# Altium footprint library Integrated Circuit SMD.PcbLib: 10 footprints
Each footprint in its own frame and in the unit in brackets; x right, y up, seen from the top. Pads: shape width x height; smd on the part's side, far side on the other; paste and mask are expansions set on the pad; w line width, h text height; cw(c..) or ccw(c..) is an arc to the next point about the centre after c.
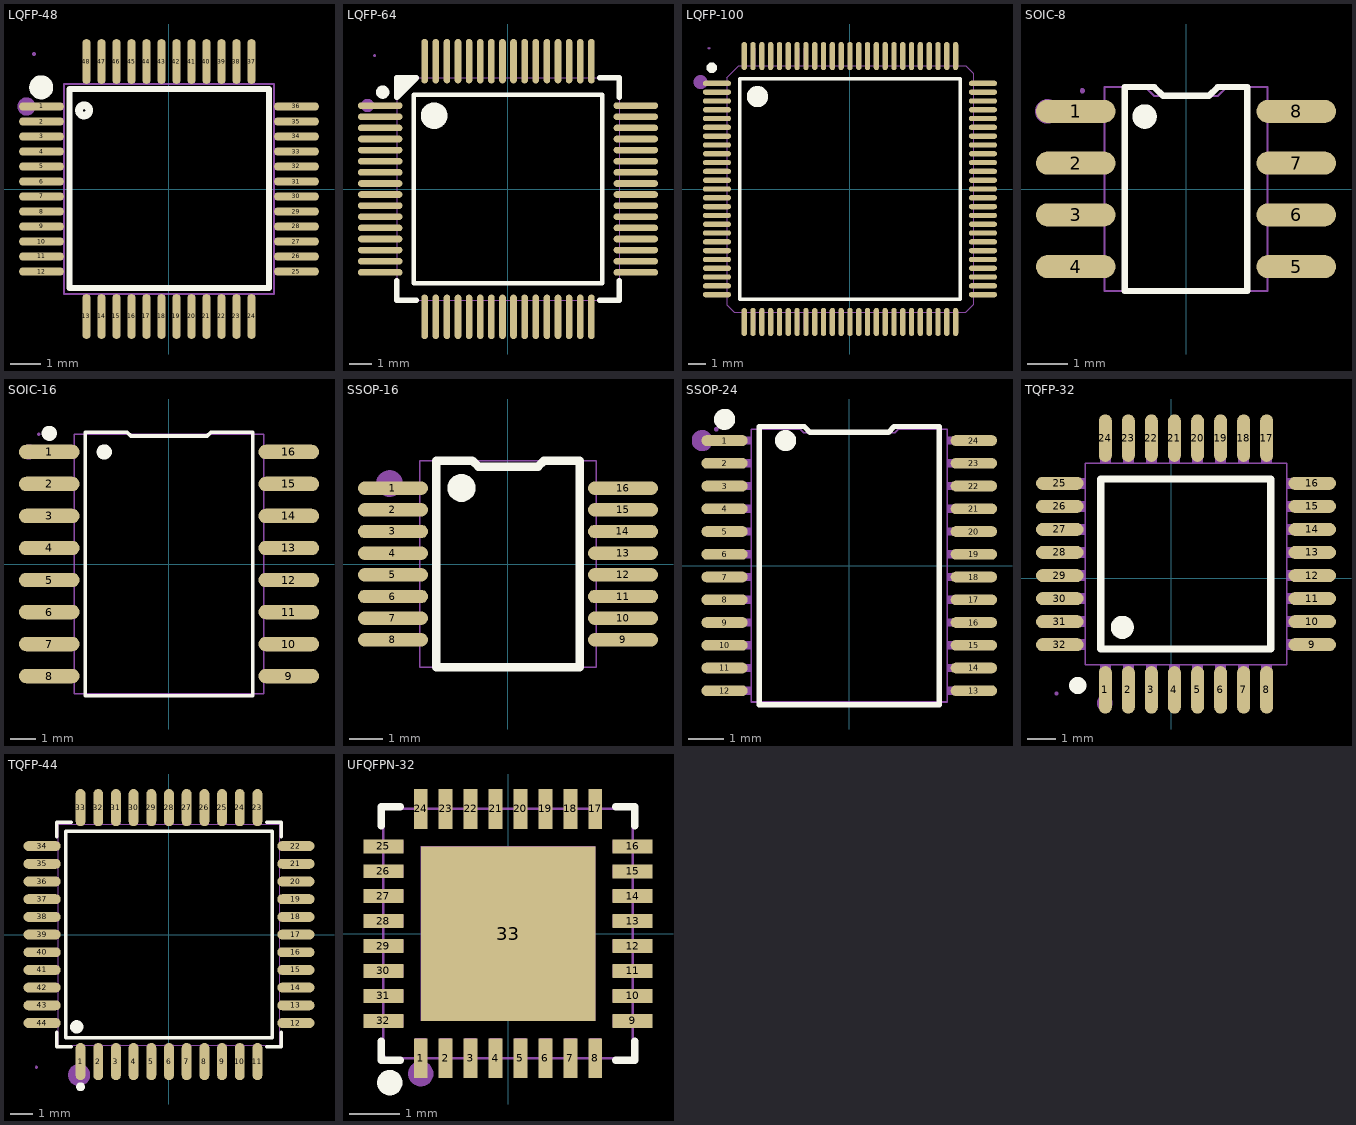
[diagram p0: the footprints below, top view; thin cyan lines are the x and y axes]

## LQFP-48 [mm] "7X7  JLCPCB"
pads (48):
  oval 1.5x0.27 smd paste+0 mask+0.05: 1(-4.25,2.75) 2(-4.25,2.25) 3(-4.25,1.75) 4(-4.25,1.25) 5(-4.25,0.75) 6(-4.25,0.25) 7(-4.25,-0.25) 8(-4.25,-0.75) 9(-4.25,-1.25) 10(-4.25,-1.75) 11(-4.25,-2.25) 12(-4.25,-2.75) 25(4.25,-2.75) 26(4.25,-2.25) 27(4.25,-1.75) 28(4.25,-1.25) 29(4.25,-0.75) 30(4.25,-0.25) 31(4.25,0.25) 32(4.25,0.75) 33(4.25,1.25) 34(4.25,1.75) 35(4.25,2.25) 36(4.25,2.75)
  oval 0.27x1.5 smd paste+0 mask+0.05: 13(-2.75,-4.25) 14(-2.25,-4.25) 15(-1.75,-4.25) 16(-1.25,-4.25) 17(-0.75,-4.25) 18(-0.25,-4.25) 19(0.25,-4.25) 20(0.75,-4.25) 21(1.25,-4.25) 22(1.75,-4.25) 23(2.25,-4.25) 24(2.75,-4.25) 37(2.75,4.25) 38(2.25,4.25) 39(1.75,4.25) 40(1.25,4.25) 41(0.75,4.25) 42(0.25,4.25) 43(-0.25,4.25) 44(-0.75,4.25) 45(-1.25,4.25) 46(-1.75,4.25) 47(-2.25,4.25) 48(-2.75,4.25)
Top Overlay:
  circle w0.254: c-2.83,2.62 r0.17
  lines w0.2: 3.34,2.565 3.34,3.327 -3.315,3.327 -3.315,-3.302 3.34,-3.302 3.34,2.896
  lines w0.4: -4.06,3.387 cw(c-4.26,3.389) -4.46,3.389 cw(c-4.26,3.389) -4.06,3.39
Mechanical 6:
  circle w0.3: c-4.75,2.75 r0.15
Mechanical 15:
  drawing of 101 lines, arcs and shapes, not listed

## LQFP-64 [mm] "10X10                                                 JLCPCB"
pads (64):
  oval 2x0.3 smd: 1(-5.75,3.75) 2(-5.75,3.25) 3(-5.75,2.75) 4(-5.75,2.25) 5(-5.75,1.75) 6(-5.75,1.25) 7(-5.75,0.75) 8(-5.75,0.25) 9(-5.75,-0.25) 10(-5.75,-0.75) 11(-5.75,-1.25) 12(-5.75,-1.75) 13(-5.75,-2.25) 14(-5.75,-2.75) 15(-5.75,-3.25) 16(-5.75,-3.75) 33(5.75,-3.75) 34(5.75,-3.25) 35(5.75,-2.75) 36(5.75,-2.25) 37(5.75,-1.75) 38(5.75,-1.25) 39(5.75,-0.75) 40(5.75,-0.25) 41(5.75,0.25) 42(5.75,0.75) 43(5.75,1.25) 44(5.75,1.75) 45(5.75,2.25) 46(5.75,2.75) 47(5.75,3.25) 48(5.75,3.75)
  oval 0.3x2 smd: 17(-3.75,-5.75) 18(-3.25,-5.75) 19(-2.75,-5.75) 20(-2.25,-5.75) 21(-1.75,-5.75) 22(-1.25,-5.75) 23(-0.75,-5.75) 24(-0.25,-5.75) 25(0.25,-5.75) 26(0.75,-5.75) 27(1.25,-5.75) 28(1.75,-5.75) 29(2.25,-5.75) 30(2.75,-5.75) 31(3.25,-5.75) 32(3.75,-5.75) 49(3.75,5.75) 50(3.25,5.75) 51(2.75,5.75) 52(2.25,5.75) 53(1.75,5.75) 54(1.25,5.75) 55(0.75,5.75) 56(0.25,5.75) 57(-0.25,5.75) 58(-0.75,5.75) 59(-1.25,5.75) 60(-1.75,5.75) 61(-2.25,5.75) 62(-2.75,5.75) 63(-3.25,5.75) 64(-3.75,5.75)
Top Overlay:
  region: -5,4.131 -4.131,5 -5,5
  lines w0.2: -4.25,-4.25 4.25,-4.25 4.25,4.25 -4.25,4.25 -4.25,-4.25
  lines w0.254: -5,-4.131 -5,-5 -4.131,-5 ; 4.131,-5 5,-5 5,-4.131 ; 4.131,5 5,5 5,4.131 ; -4.131,5 -5,5 -5,4.131 -4.131,5 ; -4.131,5 -4.131,5
  lines w0.3: -5.49,4.359 cw(c-5.64,4.36) -5.79,4.36 cw(c-5.64,4.36) -5.49,4.361
  lines w0.6: -3.025,3.294 cw(c-3.325,3.297) -3.625,3.297 cw(c-3.325,3.297) -3.025,3.299
Mechanical 6:
  circle w0.3: c-6.32,3.76 r0.15
Mechanical 15:
  drawing of 133 lines, arcs and shapes, not listed

## LQFP-100 [mm]
pads (100):
  oval 1.6x0.3 smd: 1(-7.55,6) 2(-7.55,5.5) 3(-7.55,5) 4(-7.55,4.5) 5(-7.55,4) 6(-7.55,3.5) 7(-7.55,3) 8(-7.55,2.5) 9(-7.55,2) 10(-7.55,1.5) 11(-7.55,1) 12(-7.55,0.5) 13(-7.55,0) 14(-7.55,-0.5) 15(-7.55,-1) 16(-7.55,-1.5) 17(-7.55,-2) 18(-7.55,-2.5) 19(-7.55,-3) 20(-7.55,-3.5) 21(-7.55,-4) 22(-7.55,-4.5) 23(-7.55,-5) 24(-7.55,-5.5) 25(-7.55,-6) 51(7.55,-6) 52(7.55,-5.5) 53(7.55,-5) 54(7.55,-4.5) 55(7.55,-4) 56(7.55,-3.5) 57(7.55,-3) 58(7.55,-2.5) 59(7.55,-2) 60(7.55,-1.5) 61(7.55,-1) 62(7.55,-0.5) 63(7.55,0) 64(7.55,0.5) 65(7.55,1) 66(7.55,1.5) 67(7.55,2) 68(7.55,2.5) 69(7.55,3) 70(7.55,3.5) 71(7.55,4) 72(7.55,4.5) 73(7.55,5) 74(7.55,5.5) 75(7.55,6)
  oval 0.3x1.6 smd: 26(-6,-7.55) 27(-5.5,-7.55) 28(-5,-7.55) 29(-4.5,-7.55) 30(-4,-7.55) 31(-3.5,-7.55) 32(-3,-7.55) 33(-2.5,-7.55) 34(-2,-7.55) 35(-1.5,-7.55) 36(-1,-7.55) 37(-0.5,-7.55) 38(0,-7.55) 39(0.5,-7.55) 40(1,-7.55) 41(1.5,-7.55) 42(2,-7.55) 43(2.5,-7.55) 44(3,-7.55) 45(3.5,-7.55) 46(4,-7.55) 47(4.5,-7.55) 48(5,-7.55) 49(5.5,-7.55) 50(6,-7.55) 76(6,7.55) 77(5.5,7.55) 78(5,7.55) 79(4.5,7.55) 80(4,7.55) 81(3.5,7.55) 82(3,7.55) 83(2.5,7.55) 84(2,7.55) 85(1.5,7.55) 86(1,7.55) 87(0.5,7.55) 88(0,7.55) 89(-0.5,7.55) 90(-1,7.55) 91(-1.5,7.55) 92(-2,7.55) 93(-2.5,7.55) 94(-3,7.55) 95(-3.5,7.55) 96(-4,7.55) 97(-4.5,7.55) 98(-5,7.55) 99(-5.5,7.55) 100(-6,7.55)
Top Overlay:
  lines w0.2: -6.25,-6.25 -6.25,6.25 6.25,6.25 6.25,-6.25 -6.25,-6.25
  lines w0.3: -7.696,6.881 cw(c-7.846,6.882) -7.996,6.882 cw(c-7.846,6.882) -7.696,6.883
  lines w0.6: -4.95,5.245 cw(c-5.25,5.248) -5.55,5.248 cw(c-5.25,5.248) -4.95,5.25
Mechanical 6:
  circle w0.4: c-8.484,6.071 r0.2
Mechanical 15:
  drawing of 209 lines, arcs and shapes, not listed

## SOIC-8 [mil] "(5X4) Narrow                               JLCPCB"
pads (8):
  oval 76.78x22.38 smd: 1(-106.5,75) 2(-106.5,25) 3(-106.5,-25) 4(-106.5,-75) 5(106.5,-75) 6(106.5,-25) 7(106.5,25) 8(106.5,75)
Top Overlay:
  circle w11.81: c-40,70 r5.91
  lines w6.06: 59.06,98.02 59.06,-98.42 -59.05,-98.43 -59.06,98.43 -30.62,98.43 -22.19,90 22.19,90 30.62,98.42 59.06,98.42
Mechanical 6:
  circle w11.81: c-133.86,75 r5.91
Mechanical 15:
  region: -100,92.64 -99.02,92.64 -97.64,94.02 -97.64,95.98 -99.02,97.37 -100,97.37 -100.98,97.37 -102.36,95.98 -102.36,94.02 -100.98,92.64
  region: 76.38,-66.93 85.63,-66.93 85.63,-83.07 76.38,-83.07
  region: 85.24,-66.93 118.11,-66.93 118.11,-83.07 85.24,-83.07
  region: 76.38,-16.93 85.63,-16.93 85.63,-33.07 76.38,-33.07
  region: 85.24,-16.93 118.11,-16.93 118.11,-33.07 85.24,-33.07
  region: 76.38,33.07 85.63,33.07 85.63,16.93 76.38,16.93
  region: 85.24,33.07 118.11,33.07 118.11,16.93 85.24,16.93
  region: 76.38,83.07 85.63,83.07 85.63,66.93 76.38,66.93
  region: 85.24,83.07 118.11,83.07 118.11,66.93 85.24,66.93
  region: -85.63,-66.93 -76.38,-66.93 -76.38,-83.07 -85.63,-83.07
  region: -118.11,-66.93 -85.24,-66.93 -85.24,-83.07 -118.11,-83.07
  region: -85.63,-16.93 -76.38,-16.93 -76.38,-33.07 -85.63,-33.07
  region: -118.11,-16.93 -85.24,-16.93 -85.24,-33.07 -118.11,-33.07
  region: -85.63,33.07 -76.38,33.07 -76.38,16.93 -85.63,16.93
  region: -118.11,33.07 -85.24,33.07 -85.24,16.93 -118.11,16.93
  region: -85.63,83.07 -76.38,83.07 -76.38,66.93 -85.63,66.93
  region: -118.11,83.07 -85.24,83.07 -85.24,66.93 -118.11,66.93
  lines w2: -78.74,-98.42 78.74,-98.43 78.74,98.42 39.37,98.42 30.95,90 -30.95,90 -39.37,98.42 -78.74,98.42 -78.74,-98.42

## SOIC-16 [mm] "(10.3X7.5 )Wide                                                      JLCPCB"
pads (16):
  oval 2.401x0.574 smd: 1(-4.75,4.445) 2(-4.75,3.175) 3(-4.75,1.905) 4(-4.75,0.635) 5(-4.75,-0.635) 6(-4.75,-1.905) 7(-4.75,-3.175) 8(-4.75,-4.445) 9(4.75,-4.445) 10(4.75,-3.175) 11(4.75,-1.905) 12(4.75,-0.635) 13(4.75,0.635) 14(4.75,1.905) 15(4.75,3.175) 16(4.75,4.445)
Top Overlay:
  circle w0.3: c-4.75,5.184 r0.15
  circle w0.3: c-2.569,4.445 r0.15
  lines w0.152: -3.321,-5.226 -3.321,5.226 -1.661,5.226 -1.515,5.08 1.514,5.08 1.661,5.226 3.321,5.226 3.321,-5.226 -3.321,-5.226
Mechanical 6:
  circle w0.3: c-5.563,4.445 r0.15
Mechanical 15:
  drawing of 37 lines, arcs and shapes, not listed

## SSOP-16 [mm]
pads (16):
  oval 2.1x0.4 smd: 1(-3.45,2.275) 2(-3.45,1.625) 3(-3.45,0.975) 4(-3.45,0.325) 5(-3.45,-0.325) 6(-3.45,-0.975) 7(-3.45,-1.625) 8(-3.45,-2.275) 9(3.45,-2.275) 10(3.45,-1.625) 11(3.45,-0.975) 12(3.45,-0.325) 13(3.45,0.325) 14(3.45,0.975) 15(3.45,1.625) 16(3.45,2.275)
Top Overlay:
  region: -1.397,2.697 -1.315,2.697 -1.164,2.634 -1.049,2.519 -0.986,2.368 -0.986,2.204 -1.049,2.053 -1.164,1.938 -1.315,1.875 -1.397,1.875 -1.479,1.875 -1.63,1.938 -1.745,2.053 -1.808,2.204 -1.808,2.368 -1.745,2.519 -1.63,2.634 -1.479,2.697
  lines w0.254: -2.153,-3.1 -2.153,3.1 ; -2.14,-3.1 2.153,-3.1 2.153,3.1 ; -2.14,3.099 -1.067,3.099 -0.889,2.921 0.902,2.921 1.08,3.099 2.153,3.099
Mechanical 6:
  circle w0.4: c-3.556,2.413 r0.2
Mechanical 15:
  drawing of 37 lines, arcs and shapes, not listed

## SSOP-24 [mm] "JLCPCB"
pads (24):
  oval 1.324x0.308 smd: 1(-3.562,3.575) 2(-3.562,2.925) 3(-3.562,2.275) 4(-3.562,1.625) 5(-3.562,0.975) 6(-3.562,0.325) 7(-3.562,-0.325) 8(-3.562,-0.975) 9(-3.562,-1.625) 10(-3.562,-2.275) 11(-3.562,-2.925) 12(-3.562,-3.575) 13(3.562,-3.575) 14(3.562,-2.925) 15(3.562,-2.275) 16(3.562,-1.625) 17(3.562,-0.975) 18(3.562,-0.325) 19(3.562,0.325) 20(3.562,0.975) 21(3.562,1.625) 22(3.562,2.275) 23(3.562,2.925) 24(3.562,3.575)
Top Overlay:
  circle w0.3: c-1.819,3.575 r0.15
  circle w0.3: c-3.562,4.181 r0.15
  lines w0.152: -2.571,-3.976 2.571,-3.976 2.571,3.976 1.286,3.976 1.12,3.81 -1.12,3.81 -1.286,3.976 -2.571,3.976 -2.571,-3.976
Mechanical 6:
  circle w0.3: c-4.2,3.575 r0.15
Mechanical 15:
  drawing of 57 lines, arcs and shapes, not listed

## TQFP-32 [mm] "TQFP-32(7x7)"
pads (32):
  oval 0.45x1.65 smd: 1(-2.292,-3.874) 2(-1.492,-3.874) 3(-0.692,-3.874) 4(0.108,-3.874) 5(0.908,-3.874) 6(1.708,-3.874) 7(2.508,-3.874) 8(3.307,-3.874) 17(3.307,4.864) 18(2.508,4.864) 19(1.708,4.864) 20(0.908,4.864) 21(0.108,4.864) 22(-0.692,4.864) 23(-1.492,4.864) 24(-2.292,4.864)
  oval 1.65x0.45 smd: 9(4.889,-2.305) 10(4.889,-1.505) 11(4.889,-0.705) 12(4.889,0.095) 13(4.889,0.895) 14(4.889,1.695) 15(4.889,2.495) 16(4.889,3.295) 25(-3.874,3.295) 26(-3.874,2.495) 27(-3.874,1.695) 28(-3.874,0.895) 29(-3.874,0.095) 30(-3.874,-0.705) 31(-3.874,-1.505) 32(-3.874,-2.305)
Top Overlay:
  lines w0.254: -2.455,-2.455 -2.455,3.445 3.445,3.445 3.445,-2.455 -2.455,-2.455
  lines w0.3: -3.252,-3.569 ccw(c-3.25,-3.719) -3.25,-3.869 ccw(c-3.25,-3.719) -3.249,-3.569
  lines w0.4: -1.705,-1.504 ccw(c-1.704,-1.704) -1.704,-1.904 ccw(c-1.704,-1.704) -1.702,-1.504
Mechanical 6:
  circle w0.254: c-2.312,-4.331 r0.127
  lines w0.254: -2.46,-4.331 cw(c-2.312,-4.331) -2.164,-4.331 cw(c-2.312,-4.331) -2.46,-4.331
Mechanical 15:
  drawing of 69 lines, arcs and shapes, not listed

## TQFP-44 [mm] "TQFP-44(10x10) Narrow                       JLCPCB"
pads (44):
  oval 0.448x1.684 smd: 1(-4,-5.742) 2(-3.2,-5.742) 3(-2.4,-5.742) 4(-1.6,-5.742) 5(-0.8,-5.742) 6(0,-5.742) 7(0.8,-5.742) 8(1.6,-5.742) 9(2.4,-5.742) 10(3.2,-5.742) 11(4,-5.742) 23(4,5.742) 24(3.2,5.742) 25(2.4,5.742) 26(1.6,5.742) 27(0.8,5.742) 28(0,5.742) 29(-0.8,5.742) 30(-1.6,5.742) 31(-2.4,5.742) 32(-3.2,5.742) 33(-4,5.742)
  oval 1.684x0.448 smd: 12(5.742,-4) 13(5.742,-3.2) 14(5.742,-2.4) 15(5.742,-1.6) 16(5.742,-0.8) 17(5.742,0) 18(5.742,0.8) 19(5.742,1.6) 20(5.742,2.4) 21(5.742,3.2) 22(5.742,4) 34(-5.742,4) 35(-5.742,3.2) 36(-5.742,2.4) 37(-5.742,1.6) 38(-5.742,0.8) 39(-5.742,0) 40(-5.742,-0.8) 41(-5.742,-1.6) 42(-5.742,-2.4) 43(-5.742,-3.2) 44(-5.742,-4)
Top Overlay:
  circle w0.2: c-4,-6.884 r0.1
  circle w0.3: c-4.171,-4.171 r0.15
  lines w0.152: -5.076,-4.414 -5.076,-5.076 -4.414,-5.076 ; -5.076,4.414 -5.076,5.076 -4.414,5.076 ; 4.414,-5.076 5.076,-5.076 5.076,-4.414 ; 4.414,5.076 5.076,5.076 5.076,4.414 ; -4.671,-4.671 -4.671,4.671 4.671,4.671 4.671,-4.671 -4.671,-4.671
Mechanical 6:
  circle w0.5: c-4.064,-6.35 r0.25
Mechanical 15:
  drawing of 93 lines, arcs and shapes, not listed

## UFQFPN-32 [mm] "UFQFPN-32_L5.0-W5.0-P0.50-BL-EP3.5                            (Ultra Thin Fine-pitch Quad Flat No Lead)                                     JLCPCB"
pads (33):
  rect 0.28x0.8 smd paste-100 mask+0.051: 1(-1.75,-2.5) 2(-1.25,-2.5) 3(-0.75,-2.5) 4(-0.25,-2.5) 5(0.25,-2.5) 6(0.75,-2.5) 7(1.25,-2.5) 8(1.75,-2.5) 17(1.75,2.5) 18(1.25,2.5) 19(0.75,2.5) 20(0.25,2.5) 21(-0.25,2.5) 22(-0.75,2.5) 23(-1.25,2.5) 24(-1.75,2.5)
  rect 0.8x0.28 smd paste-100 mask+0.051: 9(2.5,-1.75) 10(2.5,-1.25) 11(2.5,-0.75) 12(2.5,-0.25) 13(2.5,0.25) 14(2.5,0.75) 15(2.5,1.25) 16(2.5,1.75) 25(-2.5,1.75) 26(-2.5,1.25) 27(-2.5,0.75) 28(-2.5,0.25) 29(-2.5,-0.25) 30(-2.5,-0.75) 31(-2.5,-1.25) 32(-2.5,-1.75)
  rect 3.5x3.5 smd paste-100 mask+0.051: 33(0,0)
Top Overlay:
  circle w0.254: c-2.37,-2.99 r0.127
  lines w0.152: -2.54,-2.159 -2.54,-2.54 -2.159,-2.54 ; -2.54,2.159 -2.54,2.54 -2.159,2.54 ; 2.159,-2.54 2.54,-2.54 2.54,-2.159 ; 2.159,2.54 2.54,2.54 2.54,2.159
Top Paste:
  drawing of 33 lines, arcs and shapes, not listed
Mechanical 6:
  circle w0.254: c-1.75,-2.81 r0.127
Mechanical 15:
  drawing of 38 lines, arcs and shapes, not listed